# Altium footprint library Moduły.PcbLib: 22 footprints (part 1 of 2)
Each footprint in its own frame and in the unit in brackets; x right, y up, seen from the top. Pads: shape width x height; smd on the part's side, far side on the other; paste and mask are expansions set on the pad; w line width, h text height; cw(c..) or ccw(c..) is an arc to the next point about the centre after c.
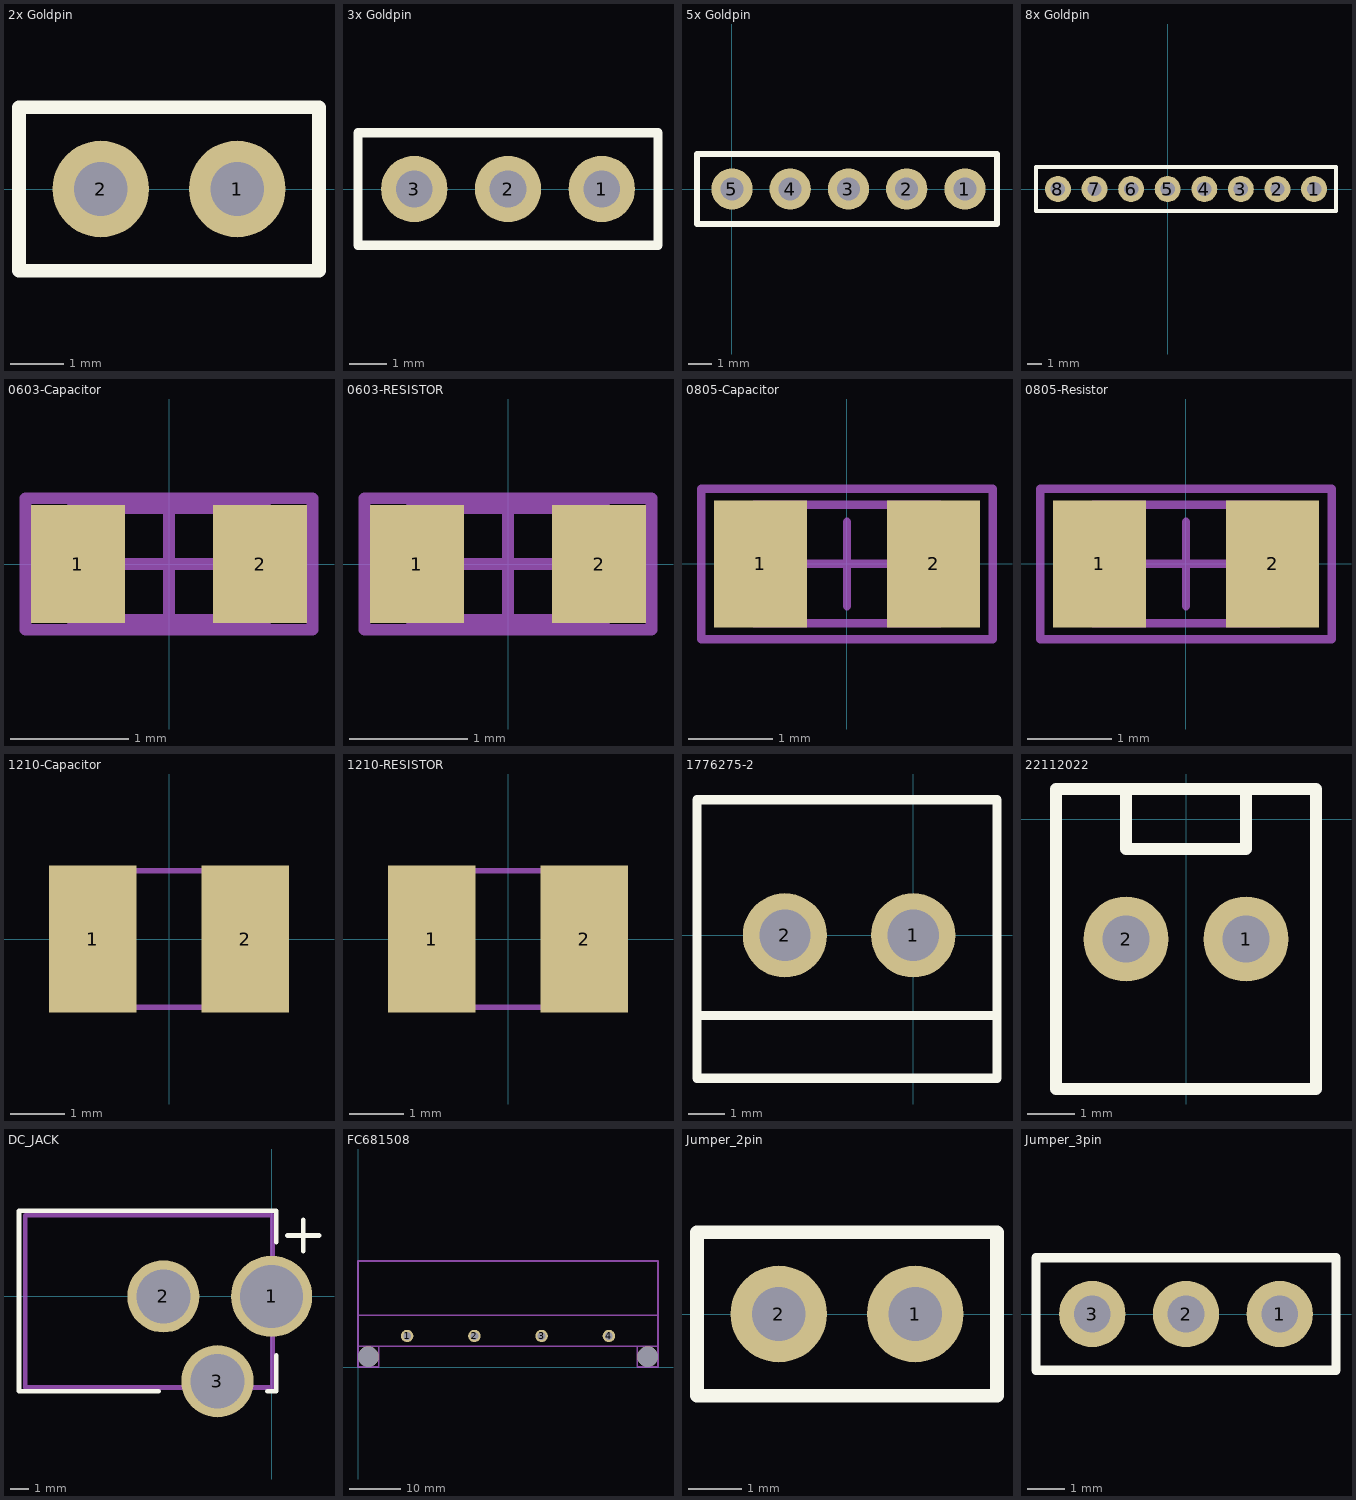
[diagram p0: the footprints below, top view; thin cyan lines are the x and y axes]

## 2x Goldpin [mm] "2x Goldpin 2.56mm"
height 10
pads (2):
  round 1.8 hole 1: 1(10.16,0) 2(7.62,0)
Top Overlay:
  lines w0.254: 6.096,-1.524 11.684,-1.524 11.684,1.524 6.096,1.524 6.096,-1.524
3D body "Pin Header 1x2 TH Pitch 2.54mm.stp": height 9.5, standoff -3.2, extent 6.35,-1.27 11.43,1.27

## 3x Goldpin [mm] "3x Goldpin 2.56mm"
height 10
pads (3):
  round 1.8 hole 1: 1(10.16,0) 2(7.62,0) 3(5.08,0)
Top Overlay:
  lines w0.254: 3.556,-1.524 3.556,1.524 11.684,1.524 11.684,-1.524 3.556,-1.524
3D body "Pin Header 1x3 TH Pitch 2.54mm.stp": height 9.5, standoff -3.2, extent 3.81,-1.27 11.43,1.27

## 5x Goldpin [mm] "5x Goldpin 2.56mm"
height 10
pads (5):
  round 1.8 hole 1: 1(10.16,0) 2(7.62,0) 3(5.08,0) 4(2.54,0) 5(0,0)
Top Overlay:
  lines w0.254: -1.524,-1.524 11.557,-1.524 11.557,1.524 -1.524,1.524 -1.524,-1.524
3D body "Pin Header 1x5 TH Pitch 2.54mm.stp": height 9.5, standoff -3.2, extent -1.27,-1.27 11.43,1.27

## 8x Goldpin [mm] "8x Goldpin 2.56mm"
height 10
pads (8):
  round 1.8 hole 1: 1(10.16,0) 2(7.62,0) 3(5.08,0) 4(2.54,0) 5(0,0) 6(-2.54,0) 7(-5.08,0) 8(-7.62,0)
Top Overlay:
  lines w0.254: -9.144,-1.524 11.684,-1.524 11.684,1.524 -9.144,1.524 -9.144,0.762 -9.144,-0.762 -9.144,-1.524
3D body "Pin Header 1x8 TH Pitch 2.54mm.stp": height 9.5, standoff -3.2, extent -8.89,-1.27 11.43,1.27

## 0603-Capacitor [mm] "Chip Resistor, 2-Leads, Body 1,6x0,8mm, IPC Medium Density"
height 0.5
pads (2):
  rect 0.8x1 smd: 1(-0.775,0) 2(0.775,0)
Mechanical 13:
  lines w0.1: -0.825,-0.475 0.825,-0.475 0.825,0.475 -0.825,0.475 -0.825,-0.475
Mechanical 15:
  lines w0.1: -0.5,0 0.5,0 ; 0,-0.5 0,0.5 ; -1.219,-0.559 1.219,-0.559 1.219,0.559 -1.219,0.559 -1.219,-0.559
Mechanical 30:
  lines w0.1: -1.219,-0.559 -1.219,0.559 1.219,0.559 1.219,-0.559 -1.219,-0.559
  text ".Designator" at -1.675,-0.475 h0.8
Mechanical 31:
  lines w0.1: -1.219,-0.559 -1.219,0.559 1.219,0.559 1.219,-0.559 -1.219,-0.559
  text ".Comment" at -1.725,-0.5 h0.8
3D body "CAP0603.stp": height 0.3, standoff 0, extent -0.8,-0.4 0.8,0.4

## 0603-RESISTOR [mm] "Chip Resistor, 2-Leads, Body 1,6x0,8mm, IPC Medium Density"
height 0.5
pads (2):
  rect 0.8x1 smd: 1(-0.775,0) 2(0.775,0)
Mechanical 13:
  lines w0.1: -0.825,-0.475 -0.825,0.475 0.825,0.475 0.825,-0.475 -0.825,-0.475
Mechanical 15:
  lines w0.1: -0.5,0 0.5,0 ; 0,-0.5 0,0.5 ; -1.219,-0.559 -1.219,0.559 1.219,0.559 1.219,-0.559 -1.219,-0.559
Mechanical 30:
  lines w0.1: -1.219,-0.559 1.219,-0.559 1.219,0.559 -1.219,0.559 -1.219,-0.559
  text ".Designator" at -1.675,-0.475 h0.8
Mechanical 31:
  lines w0.1: -1.219,-0.559 1.219,-0.559 1.219,0.559 -1.219,0.559 -1.219,-0.559
  text ".Comment" at -1.725,-0.5 h0.8
3D body "RESC-0603.stp": height 0.55, standoff 0, extent -0.85,-0.45 0.85,0.45

## 0805-Capacitor [mm] "Chip Resistor, 2-Leads, Body 2,1x1,3mm, IPC Medium Density"
height 0.5
pads (2):
  rect 1.1x1.5 smd: 1(-1.025,0) 2(1.025,0)
Mechanical 13:
  lines w0.1: -1.1,-0.7 1.1,-0.7 1.1,0.7 -1.1,0.7 -1.1,-0.7
Mechanical 15:
  lines w0.1: -0.5,0 0.5,0 ; 0,-0.5 0,0.5 ; -1.727,-0.889 -1.727,0.889 1.727,0.889 1.727,-0.889 -1.727,-0.889
Mechanical 16:
  lines w0.1: -1.727,-0.892 -1.727,0.889 ; -1.727,-0.892 1.727,-0.892 ; -1.727,-0.892 -1.727,0.889 ; -1.727,-0.892 1.727,-0.892 ; -1.727,0.889 1.727,0.889 ; -1.727,0.889 1.727,0.889 ; 1.727,-0.892 1.727,0.889 ; 1.727,-0.892 1.727,0.889
Mechanical 30:
  text ".Designator" at -1.975,-0.425 h0.8
Mechanical 31:
  text ".Comment" at -2.025,-0.45 h0.8
3D body "CAP0805.stp": height 0.78, standoff 0, extent -1,-0.625 1,0.625

## 0805-Resistor [mm] "Chip Resistor, 2-Leads, Body 2,1x1,3mm, IPC Medium Density"
height 0.5
pads (2):
  rect 1.1x1.5 smd: 1(-1.025,0) 2(1.025,0)
Mechanical 13:
  lines w0.1: -1.1,-0.7 -1.1,0.7 1.1,0.7 1.1,-0.7 -1.1,-0.7
Mechanical 15:
  lines w0.1: -0.5,0 0.5,0 ; 0,-0.5 0,0.5 ; -1.727,-0.889 1.727,-0.889 1.727,0.889 -1.727,0.889 -1.727,-0.889
Mechanical 16:
  lines w0.1: -1.727,-0.892 1.727,-0.892 ; -1.727,-0.892 -1.727,0.889 ; -1.727,-0.892 1.727,-0.892 ; -1.727,-0.892 -1.727,0.889 ; -1.727,0.889 1.727,0.889 ; -1.727,0.889 1.727,0.889 ; 1.727,-0.892 1.727,0.889 ; 1.727,-0.892 1.727,0.889
Mechanical 30:
  text ".Designator" at -1.975,-0.425 h0.8
Mechanical 31:
  text ".Comment" at -2.025,-0.45 h0.8
3D body "RESC-0805.stp": height 0.6, standoff 0, extent -1.05,-0.675 1.05,0.675

## 1210-Capacitor [mm]
pads (2):
  rect 1.6x2.7 smd: 1(-1.4,0) 2(1.4,0)
Mechanical 13:
  lines w0.1: -1.8,-1.25 1.8,-1.25 1.8,1.25 -1.8,1.25 -1.8,-1.25
3D body: height 2.3, standoff 0.2, extent -1.8,-1.25 1.8,1.25

## 1210-RESISTOR [mm]
pads (2):
  rect 1.6x2.7 smd: 1(-1.4,0) 2(1.4,0)
Mechanical 13:
  lines w0.1: -1.8,-1.25 -1.8,1.25 1.8,1.25 1.8,-1.25 -1.8,-1.25
3D body "Resistor-1210.step": height 0.6, standoff 0, extent -1.6,-1.25 1.6,1.25

## 1776275-2 [mm] "1776275-2 Screw terminal"
height 10
pads (2):
  round 2.3 hole 1.4: 1(0,0) 2(-3.5,0)
Top Overlay:
  lines w0.254: -5.9,-2.187 2.286,-2.187 ; -5.9,-3.9 2.286,-3.9 2.286,3.7 -5.9,3.7 -5.9,-3.9
3D body "stb02.step": height 8.5, standoff -3.5, extent -5.741,-3.777 2.159,3.523

## 22112022 [mm]
pads (2):
  round 1.8 hole 1: 1(1.27,-2.54) 2(-1.27,-2.54)
Top Overlay:
  lines w0.254: -1.27,0.635 -1.27,-0.635 1.27,-0.635 1.27,0.635 ; -2.75,-5.715 2.75,-5.715 2.75,0.635 -2.75,0.635 -2.75,-5.715
3D body "022112022.stp": height 10.73, standoff -3.49, extent -2.464,-5.791 2.464,0.559

## DC_JACK [mm] "DC JACK"
height 11
pads (3):
  round 4.5 hole 3.5: 1(0,0)
  round 4 hole 3: 2(-6,0) 3(-3,-4.7)
Top Overlay:
  lines w0.254: -6.25,-5.25 -7.438,-5.25 -11.812,-5.25 -14,-5.25 -14,4.75 0.25,4.75 0.25,3 ; -0.25,-5.25 0.25,-5.25 0.25,-3.25 ; 0.875,3.375 2.625,3.375 ; 1.75,2.5 1.75,4.25
Mechanical 15:
  lines w0.254: -13.65,-5.05 0.05,-5.05 0.05,4.5 -13.65,4.5 -13.65,-5.05
3D body "dcjack.STEP": height 11.1, standoff -3.5, extent -13.65,-5.05 0.05,4.5

## FC681508 [mm] "2x Speaker terminal THT"
height 25
pads (6):
  round 2.4 hole 1.5: 1(9.5,6) 2(22.5,6) 3(35.5,6) 4(48.5,6)
  round 4 hole 4 unplated: ""(2,2) ""(56,2)
Mechanical 1:
  lines w0.3: 0,10 58,10 ; 4,4 4,0 0,0 ; 54,4 54,0 58,0 ; 0,0 0,20.5 58,20.5 58,0 ; 0,0 0,4 58,4 58,0
3D body: height 12, standoff 4, extent 5.6,17.767 13.4,20.5
3D body: height 20, standoff 0, extent -3,0 61,10
3D body: height 0, standoff -5, extent 48.004,5.501 49,6.499
3D body: height 0, standoff -5, extent 35.004,5.501 36,6.499
3D body: height 0, standoff -5, extent 22.004,5.501 23,6.499
3D body: height 0, standoff -5, extent 9.004,5.501 10,6.499
3D body: height 0, standoff -5, extent 54.75,0.6 57.25,3.4
3D body: height 0, standoff -5, extent 0.75,0.6 3.25,3.4
3D body: height 20, standoff 8, extent 3.5,10 54.5,20
3D body: height 12, standoff 4, extent 44.6,17.767 52.4,20.5
3D body: height 12, standoff 4, extent 18.6,17.767 26.4,20.5
3D body: height 12, standoff 4, extent 31.6,17.767 39.4,20.5

## Jumper_2pin [mm] "2x 2.56mm jumper"
height 10
pads (2):
  round 1.8 hole 1: 1(10.16,0) 2(7.62,0)
Top Overlay:
  lines w0.254: 6.096,-1.524 6.096,1.524 11.684,1.524 11.684,-1.524 6.096,-1.524
3D body "Pin Header 1x2 TH Pitch 2.54mm.stp": height 9.5, standoff -3.2, extent 6.35,-1.27 11.43,1.27
3D body: height 9, standoff 3, extent 6.35,-1.27 11.43,1.27
3D body: height 8, standoff 6, extent 7.112,0.254 10.668,0.508

## Jumper_3pin [mm] "3x 2.56mm jumper"
height 10
pads (3):
  round 1.8 hole 1: 1(10.16,0) 2(7.62,0) 3(5.08,0)
Top Overlay:
  lines w0.254: 3.556,-1.524 11.684,-1.524 11.684,1.524 3.556,1.524 3.556,-1.524
3D body: height 8, standoff 6, extent 7.112,0.254 10.668,0.508
3D body: height 9, standoff 3, extent 6.35,-1.27 11.43,1.27
3D body "Pin Header 1x3 TH Pitch 2.54mm.stp": height 9.5, standoff -3.2, extent 3.81,-1.27 11.43,1.27